# EAGLE library part TXS0104E (library Mainboard)
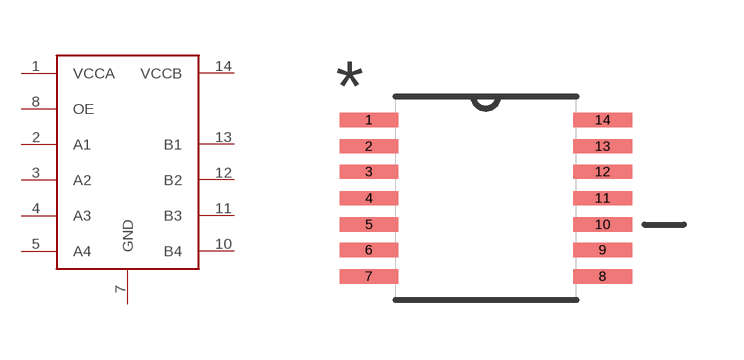
[diagram p14: symbol with the pads of TEXAS_SOP65P640X120-14N; footprint TEXAS_SOP65P640X120-14N]

Designator prefix -

## TXS0104E  [TEXAS_SOP65P640X120-14N]
1  VCCA
2  A1
3  A2
4  A3
5  A4
7  GND
8  OE
10  B4
11  B3
12  B2
13  B1
14  VCCB

## Footprint TEXAS_SOP65P640X120-14N (pad centres in mm)
smd 1.473 x 0.356: 1 -2.921,1.956; 2 -2.921,1.295; 3 -2.921,0.66; 4 -2.921,0; 5 -2.921,-0.66; 6 -2.921,-1.295; 7 -2.921,-1.956; 8 2.921,-1.956; 9 2.921,-1.295; 10 2.921,-0.66; 11 2.921,0; 12 2.921,0.66; 13 2.921,1.295; 14 2.921,1.956